# Altium schematic symbol library Sim Card Holder MOLEX 78800.Schlib: 1 symbol
Pins are listed as number, name and electrical type; pins without a type are passive.

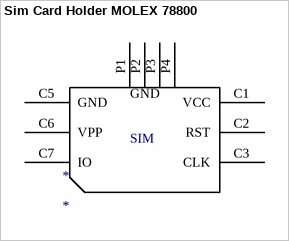
[diagram p0: symbol Sim Card Holder MOLEX 78800]

## Sim Card Holder MOLEX 78800
designator *
SIM Card 6 connector SMD Card Sockets Connectors RoHS; ComponentLink1Description: LCSC - MOLEX 78800; ComponentLink1URL: https://lcsc.com/product-detail/Card-Sockets-Connectors_MOLEX-788000001_C127364.html; LCSC Part #: C127364; JLCPCB Part Type: Extended
footprint MOLEX 78800
pins: C1 VCC, C2 RST, C3 CLK, C5 GND, C6 VPP, C7 IO, P1 GND, P2 GND, P3 GND, P4 GND
text: SIM